# Altium schematic symbol library RF_Transceiver.SchLib: 7 symbols
Pins are listed as number, name and electrical type; pins without a type are passive.

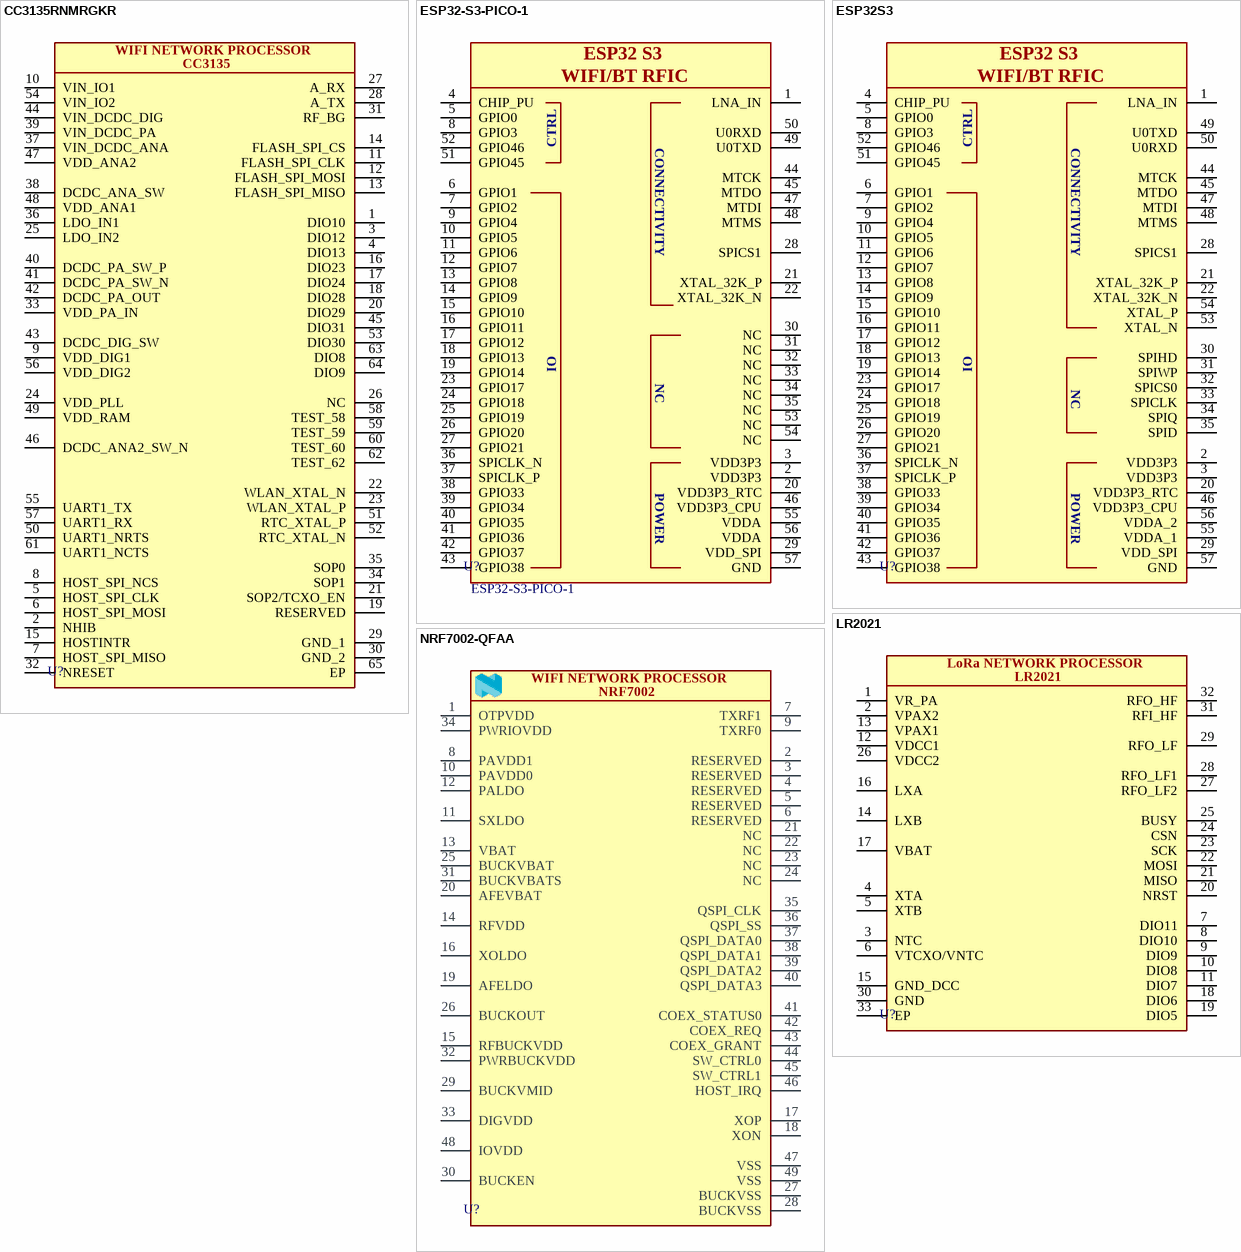
[diagram p0: symbols CC3135RNMRGKR to NRF7002-QFAA]

## CC3135RNMRGKR
designator U?
-40℃~+85℃ -96dBm 18dBm 2.1V~3.6V 223mA 53mA 72Mbps SPI WiFi VQFN-64-EP(9x9) RF Transceiver ICs ROHS; Manufacturer 1: Texas Instruments; Manufacturer Part Number 1: CC3135RNMRGKR; Package: VQFN-64-EP(9x9); Supplier 1: *; Supplier Part Number 1: *
footprint QFN50P900X900X100-65N-D
pins: 1 DIO10, 2 NHIB, 3 DIO12, 4 DIO13, 5 HOST_SPI_CLK, 6 HOST_SPI_MOSI, 7 HOST_SPI_MISO, 8 HOST_SPI_NCS, 9 VDD_DIG1, 10 VIN_IO1, 11 FLASH_SPI_CLK, 12 FLASH_SPI_MOSI, 13 FLASH_SPI_MISO, 14 FLASH_SPI_CS, 15 HOSTINTR, 16 DIO23, 17 DIO24, 18 DIO28, 19 RESERVED, 20 DIO29, 21 SOP2/TCXO_EN, 22 WLAN_XTAL_N, 23 WLAN_XTAL_P, 24 VDD_PLL, 25 LDO_IN2, 26 NC, 27 A_RX, 28 A_TX, 29 GND_1, 30 GND_2, 31 RF_BG, 32 NRESET, 33 VDD_PA_IN, 34 SOP1, 35 SOP0, 36 LDO_IN1, 37 VIN_DCDC_ANA, 38 DCDC_ANA_SW, 39 VIN_DCDC_PA, 40 DCDC_PA_SW_P, 41 DCDC_PA_SW_N, 42 DCDC_PA_OUT, 43 DCDC_DIG_SW, 44 VIN_DCDC_DIG, 45 DIO31, 46 DCDC_ANA2_SW_N, 47 VDD_ANA2, 48 VDD_ANA1, 49 VDD_RAM, 50 UART1_NRTS, 51 RTC_XTAL_P, 52 RTC_XTAL_N, 53 DIO30, 54 VIN_IO2, 55 UART1_TX, 56 VDD_DIG2, 57 UART1_RX, 58 TEST_58, 59 TEST_59, 60 TEST_60, 61 UART1_NCTS, 62 TEST_62, 63 DIO8, 64 DIO9, 65 EP
text: WIFI NETWORK PROCESSOR; CC3135

## ESP32-S3-PICO-1
designator U?, comment value ESP32-S3-PICO-1  (hidden comment: ERP_121-4)
RF TXRX MOD BLUETOOTH WIFISMD; Manufacturer 1: Espressif Systems; Package: 56-TFQFN; ERP: *
footprint QFN40P700X700X106_HS-57N (QFN, 56-Leads, Body 7.00x7.00mm, Pitch 0.40mm, Thermal Pad 4.00x4.00mm, IPC Medium Density)
pins: 1 LNA_IN, 2 VDD3P3, 3 VDD3P3, 4 CHIP_PU, 5 GPIO0, 6 GPIO1, 7 GPIO2, 8 GPIO3, 9 GPIO4, 10 GPIO5, 11 GPIO6, 12 GPIO7, 13 GPIO8, 14 GPIO9, 15 GPIO10, 16 GPIO11, 17 GPIO12, 18 GPIO13, 19 GPIO14, 20 VDD3P3_RTC, 21 XTAL_32K_P, 22 XTAL_32K_N, 23 GPIO17, 24 GPIO18, 25 GPIO19, 26 GPIO20, 27 GPIO21, 28 SPICS1, 29 VDD_SPI, 30 NC, 31 NC, 32 NC, 33 NC, 34 NC, 35 NC, 36 SPICLK_N, 37 SPICLK_P, 38 GPIO33, 39 GPIO34, 40 GPIO35, 41 GPIO36, 42 GPIO37, 43 GPIO38, 44 MTCK, 45 MTDO, 46 VDD3P3_CPU, 47 MTDI, 48 MTMS, 49 U0TXD, 50 U0RXD, 51 GPIO45, 52 GPIO46, 53 NC, 54 NC, 55 VDDA, 56 VDDA, 57 GND
text: ESP32 S3; WIFI/BT RFIC; CTRL; CONNECTIVITY; IO; POWER

## ESP32S3
designator U?
QFN-56-EP(7x7) Microcontrollers (MCU/MPU/SOC) ROHS; Manufacturer 1: Espressif Systems; Package: QFN-56-EP(7x7); Supplier 1: *; Supplier Part Number 1: *
footprint QFN40P700X700X90-57N-D (ESP32S3)
pins: 1 LNA_IN, 2 VDD3P3, 3 VDD3P3, 4 CHIP_PU, 5 GPIO0, 6 GPIO1, 7 GPIO2, 8 GPIO3, 9 GPIO4, 10 GPIO5, 11 GPIO6, 12 GPIO7, 13 GPIO8, 14 GPIO9, 15 GPIO10, 16 GPIO11, 17 GPIO12, 18 GPIO13, 19 GPIO14, 20 VDD3P3_RTC, 21 XTAL_32K_P, 22 XTAL_32K_N, 23 GPIO17, 24 GPIO18, 25 GPIO19, 26 GPIO20, 27 GPIO21, 28 SPICS1, 29 VDD_SPI, 30 SPIHD, 31 SPIWP, 32 SPICS0, 33 SPICLK, 34 SPIQ, 35 SPID, 36 SPICLK_N, 37 SPICLK_P, 38 GPIO33, 39 GPIO34, 40 GPIO35, 41 GPIO36, 42 GPIO37, 43 GPIO38, 44 MTCK, 45 MTDO, 46 VDD3P3_CPU, 47 MTDI, 48 MTMS, 49 U0TXD, 50 U0RXD, 51 GPIO45, 52 GPIO46, 53 XTAL_N, 54 XTAL_P, 55 VDDA_1, 56 VDDA_2, 57 GND
text: ESP32 S3; WIFI/BT RFIC; CTRL; CONNECTIVITY; IO; NC; POWER

## LR2021
designator U?
RF Transceiver LoRa Plus Fourth-gen LoRa IP, Long Range, Low Power, Multi-band LoRa Transceiver; Manufacturer 1: Semtech; Package: QFN-32-EP(5x5); Supplier 1: *; Supplier Part Number 1: *
footprint QFN50P500X500X100_HS-33L (QFN, 32-Leads, Body 5.00x5.00mm, Pitch 0.50mm, Thermal Pad 3.70x3.70mm, IPC High Density)
pins: 1 VR_PA, 2 VPAX2, 3 NTC, 4 XTA, 5 XTB, 6 VTCXO/VNTC, 7 DIO11, 8 DIO10, 9 DIO9, 10 DIO8, 11 DIO7, 12 VDCC1, 13 VPAX1, 14 LXB, 15 GND_DCC, 16 LXA, 17 VBAT, 18 DIO6, 19 DIO5, 20 NRST, 21 MISO, 22 MOSI, 23 SCK, 24 CSN, 25 BUSY, 26 VDCC2, 27 RFO_LF2, 28 RFO_LF1, 29 RFO_LF, 30 GND, 31 RFI_HF, 32 RFO_HF, 33 EP
text: LoRa NETWORK PROCESSOR

## NRF7002-QFAA
designator U?
-40℃~+85℃ -98.6dBm 2.401GHz~5.895GHz 2.9V~4.5V 21dBm 260mA 60mA 86Mbps SPI WiFi transceiver QFN-48(6x6) RF Transceiver ICs ROHS; Manufacturer 1: *; Manufacturer Part Number 1: *; Package: *; Supplier 1: *; Supplier Part Number 1: *
footprint QFN40P600X600X90_HS-49M (QFN, 48-Leads, Body 6.00x6.00mm, Pitch 0.40mm, Thermal Pad 4.60x4.60mm, IPC Low Density)
pins: 1 OTPVDD "OTP write mode supply,  (2.25-2.75V)", 2 RESERVED, 3 RESERVED, 4 RESERVED, 5 RESERVED, 6 RESERVED, 7 TXRF1 "RF INOUT ,", 8 PAVDD1 "Supply ,  (3.3V)", 9 TXRF0 "RF INOUT ,", 10 PAVDD0 "Supply ,  (3.3V)", 11 SXLDO "Supply ,  (1.2V)", 12 PALDO "Supply ,  (3.3V)", 13 VBAT "Supply ,  (2.5-4.5V)", 14 RFVDD "Supply ,  (1.8V)", 15 RFBUCKVDD "Supply ,  (1.5V)", 16 XOLDO "Supply ,  (1.2V)", 17 XOP "40MHz crystal ,", 18 XON "40MHz crystal ,", 19 AFELDO "Supply ,  (1.8V)", 20 AFEVBAT "Supply ,  (2.5-4.5V)", 21 NC, 22 NC, 23 NC, 24 NC, 25 BUCKVBAT "Supply ,  (2.5-4.5V)", 26 BUCKOUT "DCDC output", 27 BUCKVSS "DCDC GND", 28 BUCKVSS "DCDC GND", 29 BUCKVMID "Voltage reference decoupling pin ,", 30 BUCKEN "PWR IP enable pin ,", 31 BUCKVBATS "Supply ,  (2.5-4.5V)", 32 PWRBUCKVDD "Supply ,  (1.5V)", 33 DIGVDD "Supply ,  (1.1V)", 34 PWRIOVDD "internal IO supply, may be used for OTP read,  (1.8-3.3 V)", 35 QSPI_CLK "QSPI Clock", 36 QSPI_SS "QSPI  Slave select", 37 QSPI_DATA0 "QSPI data 0/MOSI", 38 QSPI_DATA1 "QSPI data 1/MISO", 39 QSPI_DATA2 "QSPI data 2/NC", 40 QSPI_DATA3 "QSPI data 3/NC", 41 COEX_STATUS0 "Coex interface, DIGMON1 (O) / GPIO1 (O)", 42 COEX_REQ "Coex interface, DIGMON0 (O) / GPIO0 (O)", 43 COEX_GRANT "Coex interface, GPIO2 (O)", 44 SW_CTRL0 "external switch control , GPIO3 (O)", 45 SW_CTRL1 "external switch control , GPIO4 (O) / BT_COEX_STATUS1 (I)", 46 HOST_IRQ "Host processor interrupt request , GPIO5 (O)", 47 VSS "Connect to GND", 48 IOVDD (power) "IO supply ,  (1.8-3.3 V)", 49 VSS (power) "Center Pad"
text: WIFI NETWORK PROCESSOR; NRF7002

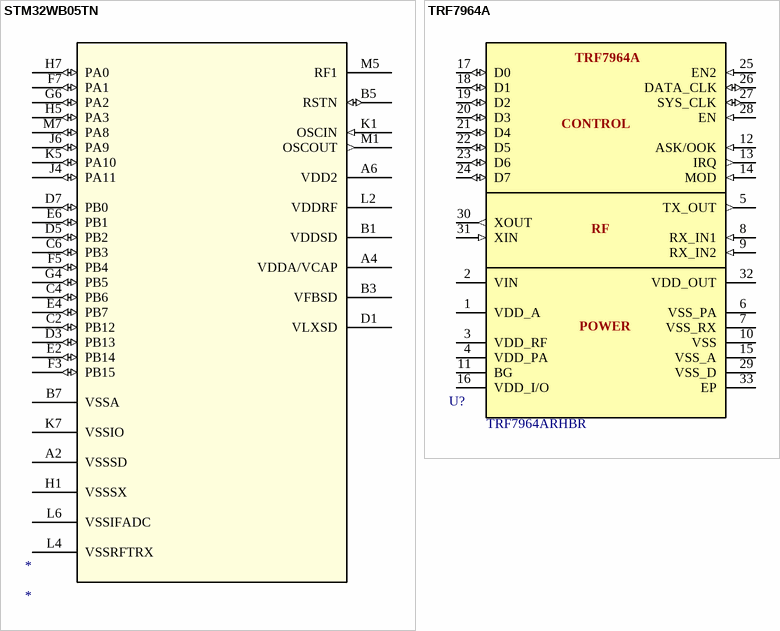
[diagram p1: symbols STM32WB05TN to TRF7964A]

## STM32WB05TN
designator *
footprint STM32WB05TN
pins: A2 VSSSD (power), A4 VDDA/VCAP (power), A6 VDD2 (power), B1 VDDSD (power), B3 VFBSD (power), B5 RSTN (io), B7 VSSA (power), C2 PB12 (io), C4 PB6 (io), C6 PB3 (io), D1 VLXSD (power), D3 PB13 (io), D5 PB2 (io), D7 PB0 (io), E2 PB14 (io), E4 PB7 (io), E6 PB1 (io), F3 PB15 (io), F5 PB4 (io), F7 PA1 (io), G4 PB5 (io), G6 PA2 (io), H1 VSSSX (power), H5 PA3 (io), H7 PA0 (io), J4 PA11 (io), J6 PA9 (io), K1 OSCIN (in), K5 PA10 (io), K7 VSSIO (power), L2 VDDRF (power), L4 VSSRFTRX (power), L6 VSSIFADC (power), M1 OSCOUT (out), M5 RF1, M7 PA8 (io)

## TRF7964A
designator U?, comment value TRF7964ARHBR  (hidden comment: ERP_121-4)
IC RFID READER 13.56MHZ 32VQFN; Manufacturer 1: TI; Manufacturer Part Number 1: TRF7964ARHBR; Package: VQFN32; Supplier 1: *; Supplier Part Number 1: *; ERP: *
footprint RHB32_3P45X3P45_TEX
pins: 1 VDD_A, 2 VIN, 3 VDD_RF, 4 VDD_PA, 5 TX_OUT (out), 6 VSS_PA, 7 VSS_RX, 8 RX_IN1 (in), 9 RX_IN2 (in), 10 VSS, 11 BG, 12 ASK/OOK (in), 13 IRQ (out), 14 MOD (in), 15 VSS_A, 16 VDD_I/O, 17 D0 (io), 18 D1 (io), 19 D2 (io), 20 D3 (io), 21 D4 (io), 22 D5 (io), 23 D6 (io), 24 D7 (io), 25 EN2 (in), 26 DATA_CLK (io), 27 SYS_CLK (io), 28 EN (in), 29 VSS_D, 30 XOUT (out), 31 XIN (in), 32 VDD_OUT, 33 EP
text: CONTROL; RF; POWER